# Altium schematic symbol library DC-DC.SchLib: 2 symbols
Pins are listed as number, name and electrical type; pins without a type are passive.

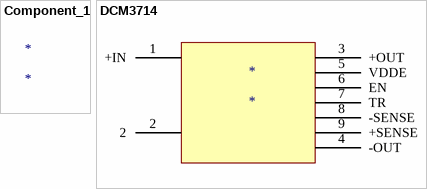
[diagram p0: symbols Component_1 to DCM3714]

## Component_1
designator *

## DCM3714
designator *
pins: 1 +IN, 2, 3 +OUT, 4 -OUT, 5 VDDE, 6 EN, 7 TR, 8 -SENSE, 9 +SENSE